# Altium schematic symbol library Connectors.SchLib: 2 symbols
Pins are listed as number, name and electrical type; pins without a type are passive.

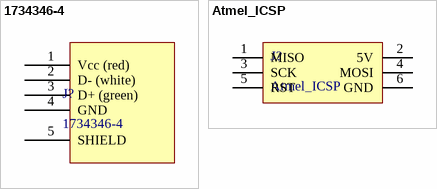
[diagram p0: symbols 1734346-4 to Atmel_ICSP]

## 1734346-4
designator J?
USB - B USB 2.0 Receptacle Connector 4 Position Surface Mount, Right Angle; PNP-A: 0; PNP-da: 0; Supplier 1: Digi-Key; Supplier 2: Mouser; Supplier 3: Arrow; Supplier Part Number 1: A114945-ND; Supplier Part Number 2: 571-1734346-1; Supplier Part Number 3: 1734346-1
footprint 1734346-4
pins: 1 Vcc (red), 2 D- (white), 3 D+ (green), 4 GND, 5 SHIELD

## Atmel_ICSP
designator J?
6-pin 0.100" ICSP header; PNP-da: 0; Supplier 1: Digi-Key; Supplier Part Number 1: S2012EC-03-ND
footprint 6x2
pins: 1 MISO, 2 5V, 3 SCK, 4 MOSI, 5 RST, 6 GND